# Altium footprint library 4L23W2.PcbLib: 1 footprints
Each footprint in its own frame and in the unit in brackets; x right, y up, seen from the top. Pads: shape width x height; smd on the part's side, far side on the other; paste and mask are expansions set on the pad; w line width, h text height; cw(c..) or ccw(c..) is an arc to the next point about the centre after c.
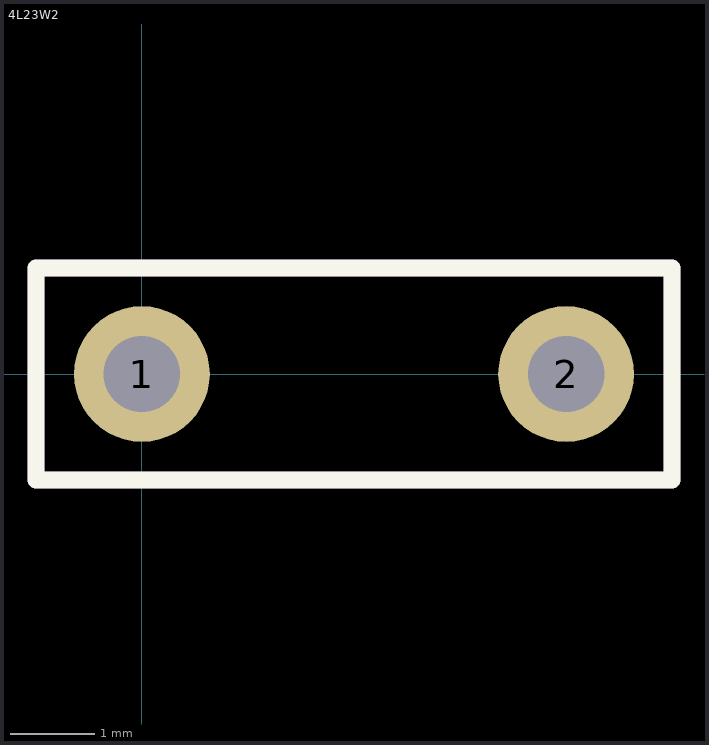
[diagram p0: the footprint, top view; thin cyan lines are the x and y axes]

## 4L23W2 [mm]
height 5.6
pads (2):
  round 1.6 hole 0.9: 1(0,0) 2(5,0)
Top Overlay:
  lines w0.2: -1.25,-1.25 -1.25,1.25 6.25,1.25 6.25,-1.25 -1.25,-1.25
Mechanical 7:
  lines w0.2: -1.25,-1.25 6.25,-1.25 6.25,1.25 -1.25,1.25 -1.25,-1.25
3D body "CAP_DISC_4x3_YL-LM.stp": height 4.99, standoff -3, extent -0.288,-1.5 5.288,1.5